# Altium schematic symbol library MAX17040.SchLib: 1 symbol
Pins are listed as number, name and electrical type; pins without a type are passive.

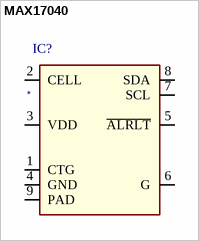
[diagram p0: symbol MAX17040]

## MAX17040
designator IC?
ID: MAX17040G+T; PDF: http://datasheets.maximintegrated.com/en/ds/MAX17040-MAX17041.pdf; PRICE: *; BUY_LINK: *
footprint TDFN8
pins: 1 CTG, 2 CELL, 3 VDD, 4 GND, 5 ~{ALRLT}, 6 G, 7 SCL, 8 SDA, 9 PAD